# EAGLE library part MA06-1J (library joakim)
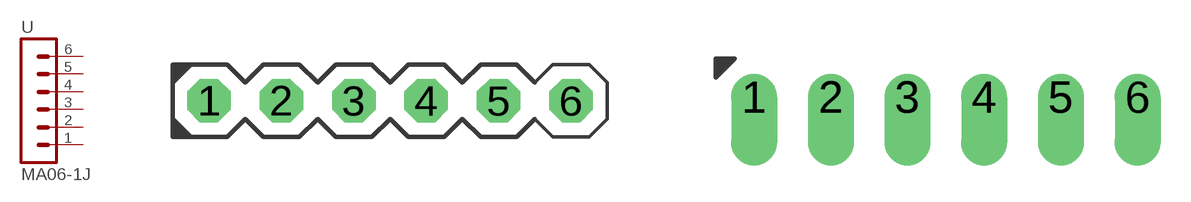
[diagram p29: symbol with the pads of MA06-1J; footprints MA06-1J, SIP-PIN06-1J]

Designator prefix -

## MA06-1JC  [MA06-1J]
1  1  pas
2  2  pas
3  3  pas
4  4  pas
5  5  pas
6  6  pas

## MA06-1JP  [SIP-PIN06-1J]
Pads as for MA06-1J

## Footprint MA06-1J (pad centres in mm)
drill 1.016 octagon: 1 -6.35,0; 2 -3.81,0; 3 -1.27,0; 4 1.27,0; 5 3.81,0; 6 6.35,0

## Footprint SIP-PIN06-1J (pad centres in mm)
drill 1.016 offset: 1 -6.35,0; 2 -3.81,0; 3 -1.27,0; 4 1.27,0; 5 3.81,0; 6 6.35,0